# EAGLE library part UB-MC5BR3(WATERPROOF) (library FirearmMonitor)
mini-B Receptacle, JST
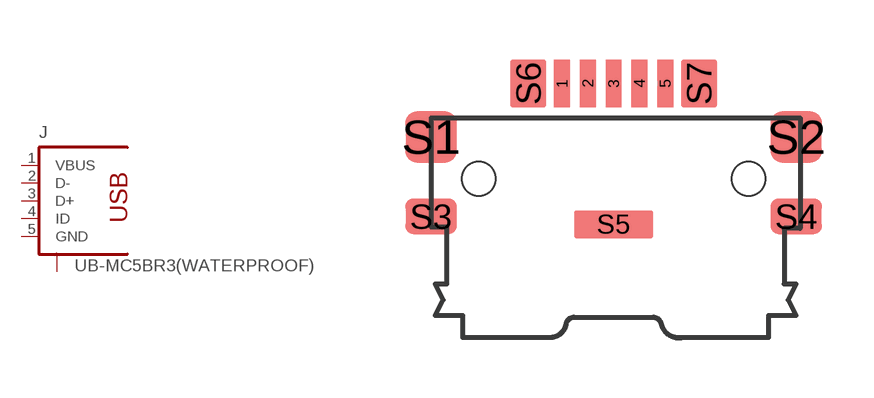
[diagram p0: symbol with the pads of UB-MC5BR3; footprint UB-MC5BR3]

Designator prefix J

## UB-MC5BR3(WATERPROOF) (DIGIKEY: 455-2932-1-ND; MFR: JST sales America; MPN: UB-MC5BR3-SDWP604-4S-TF)  [UB-MC5BR3]
1  VBUS  pas
2  D-  pas
3  D+  pas
4  ID  pas
5  GND  pas
S1  S  pas
S2  S  pas
S3  S  pas
S4  S  pas
S5  S  pas
S6  S  pas
S7  S  pas

## Footprint UB-MC5BR3 (pad centres in mm)
JST - UB series mini-B Type SMT mount
smd 0.4 x 1.2: 1 -1.3,4.25; 2 -0.65,4.25; 3 0,4.25; 4 0.65,4.25; 5 1.3,4.25
smd 1.3 x 1.3: S1 -4.6,2.9; S2 4.6,2.9
smd 1.3 x 0.9: S3 -4.6,0.9; S4 4.6,0.9
smd 2 x 0.7: S5 0,0.7
smd 0.9 x 1.2: S6 -2.15,4.25; S7 2.15,4.25
hole 0.85 at -3.4,1.85
hole 0.85 at 3.4,1.85